# Altium integrated library Components.IntLib: 1 symbol
Pins are listed as number, name and electrical type; pins without a type are passive.

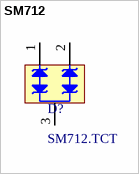
[diagram p0: symbol SM712]

## SM712
designator D?, comment SM712.TCT
Asymmerical TVS Diode for / Extended Common-Mode RS-485 /
footprint SOT23-3L (3x1.3x1mm(长宽高))
footprint SOT23-3M (3x1.3x1mm(长宽高))
footprint SOT23-3N (3x1.3x1mm(长宽高))
pins: 1, 2, 3